# EAGLE library part DRV8833 (library MouseLib)
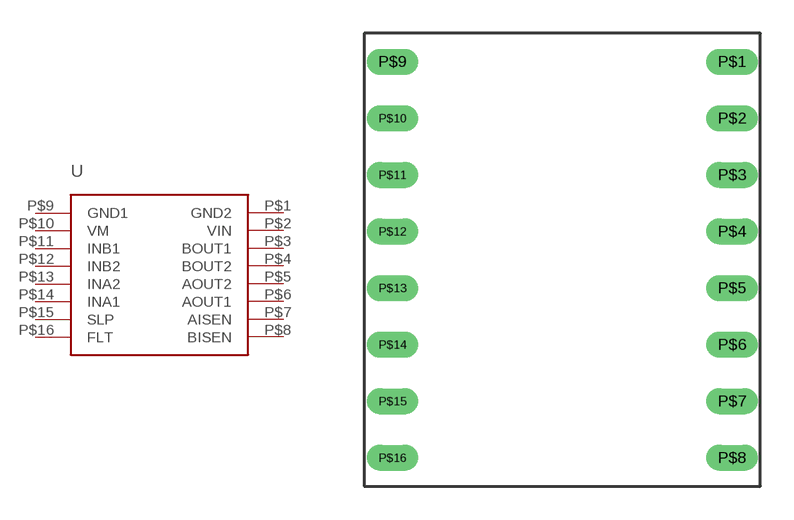
[diagram p6: symbol with the pads of 16PINS; footprint 16PINS]

Designator prefix -

## DRV8833  [16PINS]
P$1  GND2  in
P$2  VIN  pwr
P$3  BOUT1  out
P$4  BOUT2  out
P$5  AOUT2  out
P$6  AOUT1  out
P$7  AISEN  in
P$8  BISEN  pwr
P$9  GND1  pwr
P$10  VM  pwr
P$11  INB1  in
P$12  INB2  in
P$13  INA2  in
P$14  INA1  in
P$15  SLP  in
P$16  FLT  pwr

## Footprint 16PINS (pad centres in mm)
drill 0.65 long: P$1 6.35,8.89; P$2 6.35,6.35; P$3 6.35,3.81; P$4 6.35,1.27; P$5 6.35,-1.27; P$6 6.35,-3.81; P$7 6.35,-6.35; P$8 6.35,-8.89; P$9 -8.89,8.89; P$10 -8.89,6.35; P$11 -8.89,3.81; P$12 -8.89,1.27; P$13 -8.89,-1.27; P$14 -8.89,-3.81; P$15 -8.89,-6.35; P$16 -8.89,-8.89